# EAGLE library part 5-103904-7 (library con-amp-mte)
HEADER
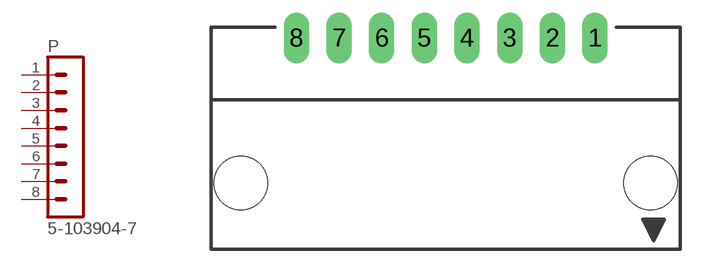
[diagram p2: symbol with the pads of 5-103904-7; footprint 5-103904-7]

Designator prefix P

## 5-103904-7  [5-103904-7]
1  1  pas
2  2  pas
3  3  pas
4  4  pas
5  5  pas
6  6  pas
7  7  pas
8  8  pas

## Footprint 5-103904-7 (pad centres in mm)
HEADER
drill 1.016 long: 1 8.89,0; 2 6.35,0; 3 3.81,0; 4 1.27,0; 5 -1.27,0; 6 -3.81,0; 7 -6.35,0; 8 -8.89,0
hole 3.175 at -12.192,-8.636
hole 3.175 at 12.192,-8.636